# EAGLE library part SXBP (library SXBP-162+)
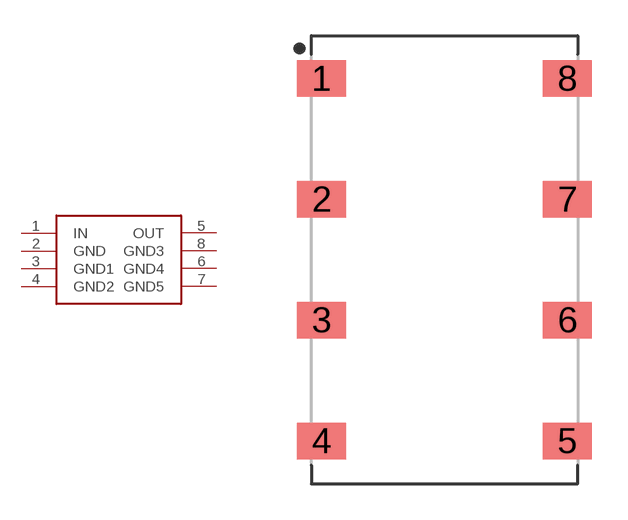
[diagram p1: symbol with the pads of RESCAV508P1882X1119X686-8; footprint RESCAV508P1882X1119X686-8]

Designator prefix -

## SXBP  [RESCAV508P1882X1119X686-8]
1  IN
2  GND
3  GND1
4  GND2
5  OUT
6  GND4
7  GND5
8  GND3

## Footprint RESCAV508P1882X1119X686-8 (pad centres in mm)
8-Chiparray 2-Side Flat, 5.08 mm pitch, 18.82 X 11.19 X 6.86 mm body 8-pin Chiparray 2-Side Flat package with 5.08 mm pitch with body size 18.82 X 11.19 X 6.86 mm
smd 2.061 x 1.527: 1 -5.169,7.62; 2 -5.169,2.54; 3 -5.169,-2.54; 4 -5.169,-7.62; 5 5.169,-7.62; 6 5.169,-2.54; 7 5.169,2.54; 8 5.169,7.62